# Altium schematic symbol library Timing Display.SchLib: 5 symbols
Pins are listed as number, name and electrical type; pins without a type are passive.

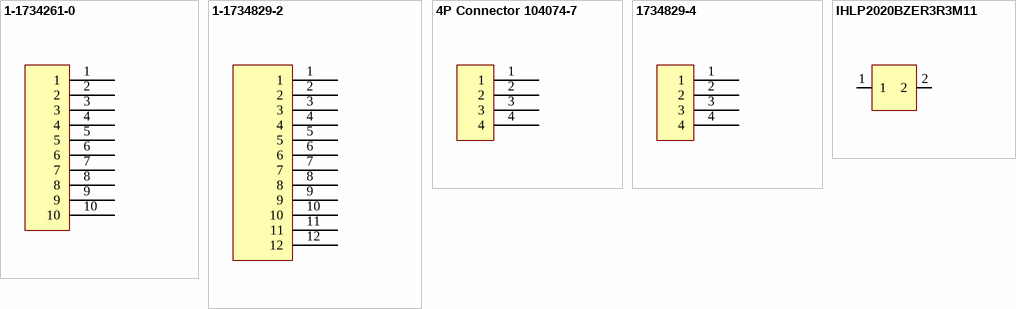
[diagram p0: symbols 1-1734261-0 to IHLP2020BZER3R3M11]

## 1-1734261-0
designator J*  Supplier Part Number 1: 571-1-1734261-0
Headers & Wire Housings 10 POS HDR R/A SMT 1.25mm; Supplier 1: Mouser
footprint 1-1734261-0
pins: 1, 2, 3, 4, 5, 6, 7, 8, 9, 10

## 1-1734829-2
designator J*  Supplier Part Number 1: 571-1-1734829-2
Headers & Wire Housings 12 POS HDR R/A 1.25mm; Supplier 1: Mouser
footprint 1-1734829-2
pins: 1, 2, 3, 4, 5, 6, 7, 8, 9, 10, 11, 12

## 4P Connector 104074-7
designator J*  Supplier Part Number 1: 571-1040747
4P SRRA SHRD HEADER, RIGHT ANGLE, 1.27MM PITCH; Supplier 1: Mouser
footprint 104074-7
pins: 1, 2, 3, 4

## 1734829-4
designator J*  Supplier Part Number 1: 571-1734829-4
Headers & Wire Housings 4 POS HDR R/A 1.25mm; Supplier 1: Mouser
footprint 1734829-4
pins: 1, 2, 3, 4

## IHLP2020BZER3R3M11
designator L*  Supplier Part Number 1: 70-IHLP2020BZER3R3M1
Supplier 1: Mouser
footprint IHLP2020BZER3R3M11
pins: 1, 2